# Altium schematic symbol library KIT.SchLib: 8 symbols
Pins are listed as number, name and electrical type; pins without a type are passive.

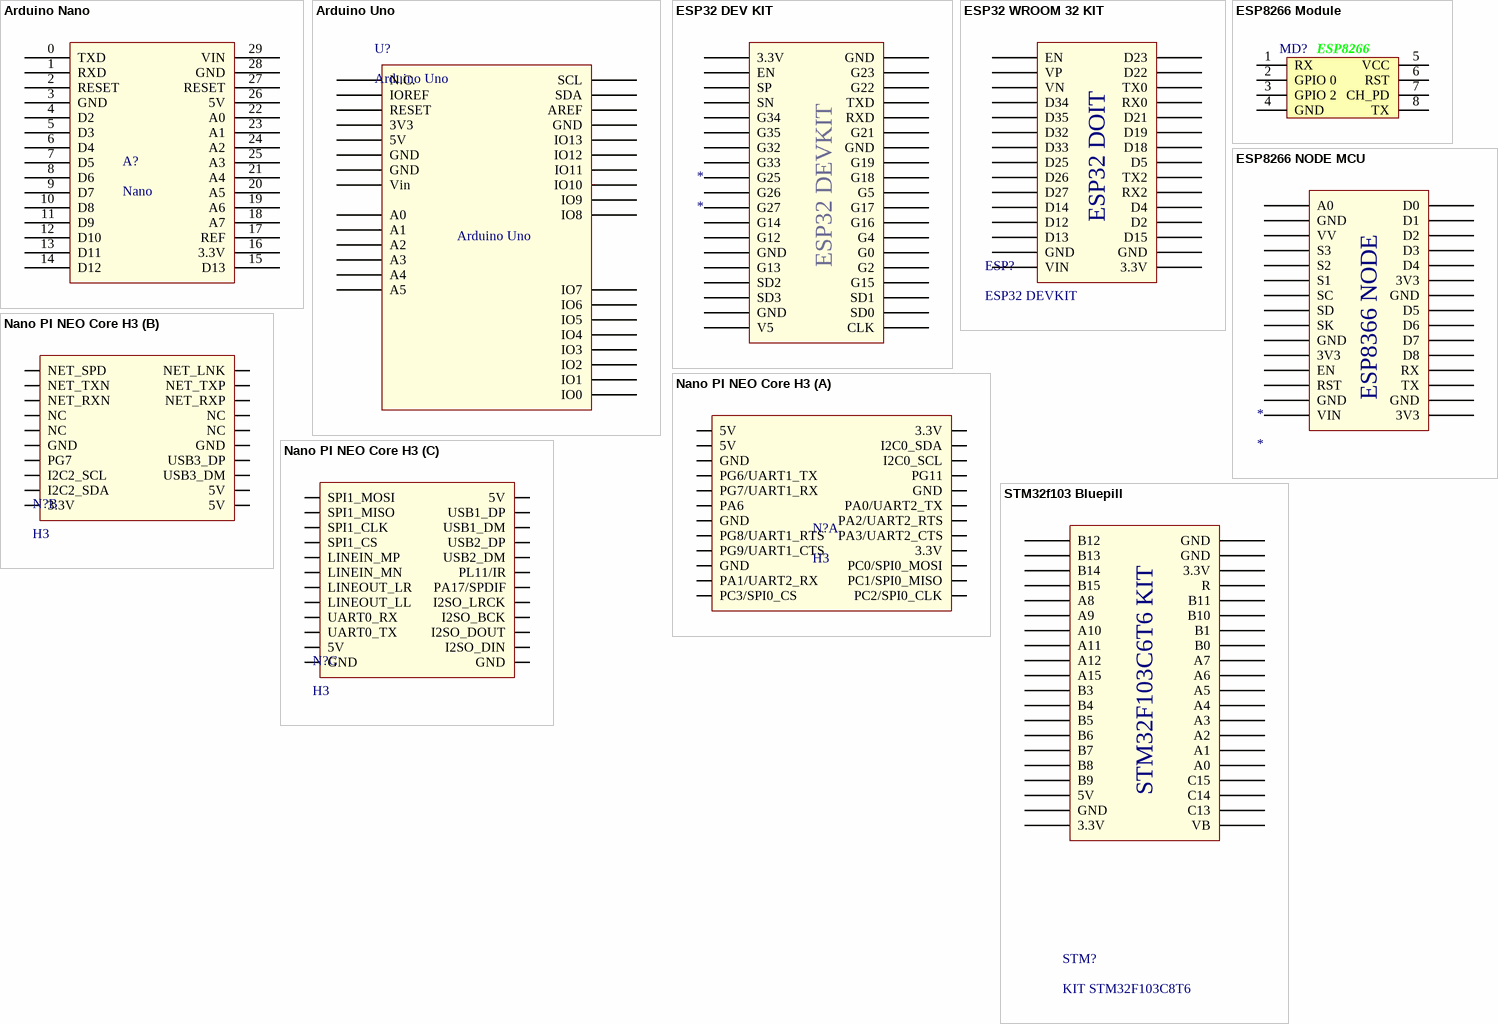
[diagram p0: symbols Arduino Nano to STM32f103 Bluepill]

## Arduino Nano
designator A?, comment Nano
footprint Arduino nano (arduino nano)
pins: 0 TXD, 1 RXD, 2 RESET, 3 GND, 4 D2, 5 D3, 6 D4, 7 D5, 8 D6, 9 D7, 10 D8, 11 D9, 12 D10, 13 D11, 14 D12, 15 D13, 16 3.3V, 17 REF, 18 A7, 19 A6, 20 A5, 21 A4, 22 A0, 23 A1, 24 A2, 25 A3, 26 5V, 27 RESET, 28 GND, 29 VIN

## Arduino Uno
designator U?
footprint Arduino Uno
footprint Arduino Uno Shield
pins: 0 IO0, 1 IO1, 2 IO2, 3 IO3, 3V3, 4 IO4, 5 IO5, 5V, 6 IO6, 7 IO7, 8 IO8, 9 IO9, 10 IO10, 11 IO11, 12 IO12, 13 IO13, A0, A1, A2, A3, A4, A5, AREF, GND1 GND, GND2 GND, GND3 GND, IOREF, NC N.C., RESET, SCL, SDA, Vin

## ESP32 DEV KIT
designator *
footprint ESP32 DEVKIT
pins: 1 3.3V, 2 EN, 3 SP, 4 SN, 5 G34, 6 G35, 7 G32, 8 G33, 9 G25, 10 G26, 11 G27, 12 G14, 13 G12, 14 GND, 15 G13, 16 SD2, 17 SD3, 18 GND, 19 V5, 20 CLK, 21 SD0, 22 SD1, 23 G15, 24 G2, 25 G0, 26 G4, 27 G16, 28 G17, 29 G5, 30 G18, 31 G19, 32 GND, 33 G21, 34 RXD, 35 TXD, 36 G22, 37 G23, 38 GND
text: ESP32 DEVKIT

## ESP32 WROOM 32 KIT
designator ESP?, comment ESP32 DEVKIT
footprint ESP32 WROOM 32 KIT
pins: 1 EN, 2 VP, 3 VN, 4 D34, 5 D35, 6 D32, 7 D33, 8 D25, 9 D26, 10 D27, 11 D14, 12 D12, 13 D13, 14 GND, 15 VIN, 16 3.3V, 17 GND, 18 D15, 19 D2, 20 D4, 21 RX2, 22 TX2, 23 D5, 24 D18, 25 D19, 26 D21, 27 RX0, 28 TX0, 29 D22, 30 D23
text: ESP32 DOIT

## ESP8266 Module
designator MD?  (value not drawn)
footprint ESP2866 Module
pins: 1 RX, 2 GPIO 0, 3 GPIO 2, 4 GND, 5 VCC, 6 RST, 7 CH_PD, 8 TX
text: ESP8266

## ESP8266 NODE MCU
designator *
footprint ESP8266 NODE MCU
pins: 1 A0, 2 GND, 3 VV, 4 S3, 5 S2, 6 S1, 7 SC, 8 SD, 9 SK, 10 GND, 11 3V3, 12 EN, 13 RST, 14 GND, 15 VIN, 16 3V3, 17 GND, 18 TX, 19 RX, 20 D8, 21 D7, 22 D6, 23 D5, 24 GND, 25 3V3, 26 D4, 27 D3, 28 D2, 29 D1, 30 D0
text: ESP8366 NODE

## Nano PI NEO Core H3
designator N?, comment H3
Nano PI NEO Core Allwinner H3
footprint Nano PI NEO Core H3
part A pins: 1 5V, 2 5V, 3 GND, 4 PG6/UART1_TX, 5 PG7/UART1_RX, 6 PA6, 7 GND, 8 PG8/UART1_RTS, 9 PG9/UART1_CTS, 10 GND, 11 PA1/UART2_RX, 12 PC3/SPI0_CS, 13 PC2/SPI0_CLK, 14 PC1/SPI0_MISO, 15 PC0/SPI0_MOSI, 16 3.3V, 17 PA3/UART2_CTS, 18 PA2/UART2_RTS, 19 PA0/UART2_TX, 20 GND, 21 PG11, 22 I2C0_SCL, 23 I2C0_SDA, 24 3.3V
part B pins: 25 NET_SPD, 26 NET_TXN, 27 NET_RXN, 28 NC, 29 NC, 30 GND, 31 PG7, 32 I2C2_SCL, 33 I2C2_SDA, 34 3.3V, 35 5V, 36 5V, 37 USB3_DM, 38 USB3_DP, 39 GND, 40 NC, 41 NC, 42 NET_RXP, 43 NET_TXP, 44 NET_LNK
part C pins: 45 SPI1_MOSI, 46 SPI1_MISO, 47 SPI1_CLK, 48 SPI1_CS, 49 LINEIN_MP, 50 LINEIN_MN, 51 LINEOUT_LR, 52 LINEOUT_LL, 53 UART0_RX, 54 UART0_TX, 55 5V, 56 GND, 57 GND, 58 I2SO_DIN, 59 I2SO_DOUT, 60 I2SO_BCK, 61 I2SO_LRCK, 62 PA17/SPDIF, 63 PL11/IR, 64 USB2_DM, 65 USB2_DP, 66 USB1_DM, 67 USB1_DP, 68 5V

## STM32f103 Bluepill
designator STM?, comment KIT STM32F103C8T6
KIT STM32F103C8T6 Bluepill
footprint STM32F103 KIT
pins: 1 B12, 2 B13, 3 B14, 4 B15, 5 A8, 6 A9, 7 A10, 8 A11, 9 A12, 10 A15, 11 B3, 12 B4, 13 B5, 14 B6, 15 B7, 16 B8, 17 B9, 18 5V, 19 GND, 20 3.3V, 21 VB, 22 C13, 23 C14, 24 C15, 25 A0, 26 A1, 27 A2, 28 A3, 29 A4, 30 A5, 31 A6, 32 A7, 33 B0, 34 B1, 35 B10, 36 B11, 37 R, 38 3.3V, 39 GND, 40 GND
text: STM32F103C6T6 KIT